# Altium integrated library DSPIC33FJ64GP706T-I_PT.IntLib: 1 symbol
Pins are listed as number, name and electrical type; pins without a type are passive.

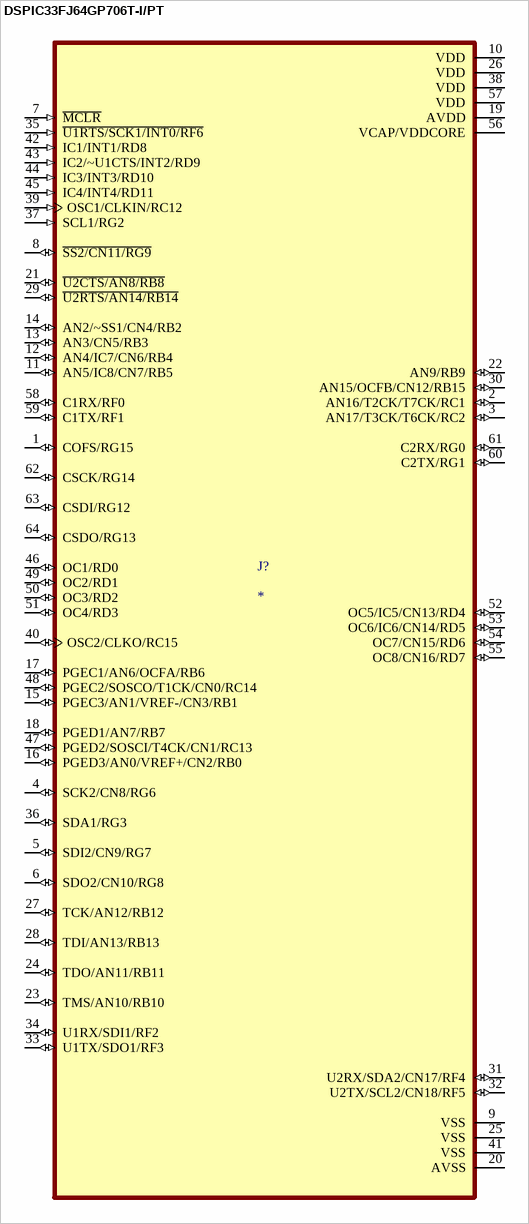
[diagram p0: symbol DSPIC33FJ64GP706T-I/PT]

## DSPIC33FJ64GP706T-I/PT
designator J?
Digital Signal Processors, DSP, DSC 40MIPS 64KB | Microchip Technology Inc. DSPIC33FJ64GP706T-I/PT; SnapEDA_Link: https://www.snapeda.com/parts/DSPIC33FJ64GP706T-I/PT/Microchip/view-part/?ref=snap; Package: TQFP-64 Microchip Technology; Value: *; MF: Microchip; MP: DSPIC33FJ64GP706T-I/PT; Check_prices: https://www.snapeda.com/parts/DSPIC33FJ64GP706T-I/PT/Microchip/view-part/?ref=eda
footprint QFP50P1200X1200X120-64N
pins: 1 COFS/RG15 (io), 2 AN16/T2CK/T7CK/RC1 (io), 3 AN17/T3CK/T6CK/RC2 (io), 4 SCK2/CN8/RG6 (io), 5 SDI2/CN9/RG7 (io), 6 SDO2/CN10/RG8 (io), 7 ~{MCLR} (in), 8 ~{SS2/CN11/RG9} (io), 9 VSS (power), 10 VDD (power), 11 AN5/IC8/CN7/RB5 (io), 12 AN4/IC7/CN6/RB4 (io), 13 AN3/CN5/RB3 (io), 14 AN2/~SS1/CN4/RB2 (io), 15 PGEC3/AN1/VREF-/CN3/RB1 (io), 16 PGED3/AN0/VREF+/CN2/RB0 (io), 17 PGEC1/AN6/OCFA/RB6 (io), 18 PGED1/AN7/RB7 (io), 19 AVDD (power), 20 AVSS (power), 21 ~{U2CTS/AN8/RB8} (io), 22 AN9/RB9 (io), 23 TMS/AN10/RB10 (io), 24 TDO/AN11/RB11 (io), 25 VSS (power), 26 VDD (power), 27 TCK/AN12/RB12 (io), 28 TDI/AN13/RB13 (io), 29 ~{U2RTS/AN14/RB14} (io), 30 AN15/OCFB/CN12/RB15 (io), 31 U2RX/SDA2/CN17/RF4 (io), 32 U2TX/SCL2/CN18/RF5 (io), 33 U1TX/SDO1/RF3 (io), 34 U1RX/SDI1/RF2 (io), 35 ~{U1RTS/SCK1/INT0/RF6} (in), 36 SDA1/RG3 (io), 37 SCL1/RG2 (in), 38 VDD (power), 39 OSC1/CLKIN/RC12 (in), 40 OSC2/CLKO/RC15 (io), 41 VSS (power), 42 IC1/INT1/RD8 (in), 43 IC2/~U1CTS/INT2/RD9 (in), 44 IC3/INT3/RD10 (in), 45 IC4/INT4/RD11 (in), 46 OC1/RD0 (io), 47 PGED2/SOSCI/T4CK/CN1/RC13 (io), 48 PGEC2/SOSCO/T1CK/CN0/RC14 (io), 49 OC2/RD1 (io), 50 OC3/RD2 (io), 51 OC4/RD3 (io), 52 OC5/IC5/CN13/RD4 (io), 53 OC6/IC6/CN14/RD5 (io), 54 OC7/CN15/RD6 (io), 55 OC8/CN16/RD7 (io), 56 VCAP/VDDCORE (power), 57 VDD (power), 58 C1RX/RF0 (io), 59 C1TX/RF1 (io), 60 C2TX/RG1 (io), 61 C2RX/RG0 (io), 62 CSCK/RG14 (io), 63 CSDI/RG12 (io), 64 CSDO/RG13 (io)